# Altium integrated library TI Amplifiers and Linear Operational Amplifier High Speed.IntLib: 1100 symbols (part 21 of 44)
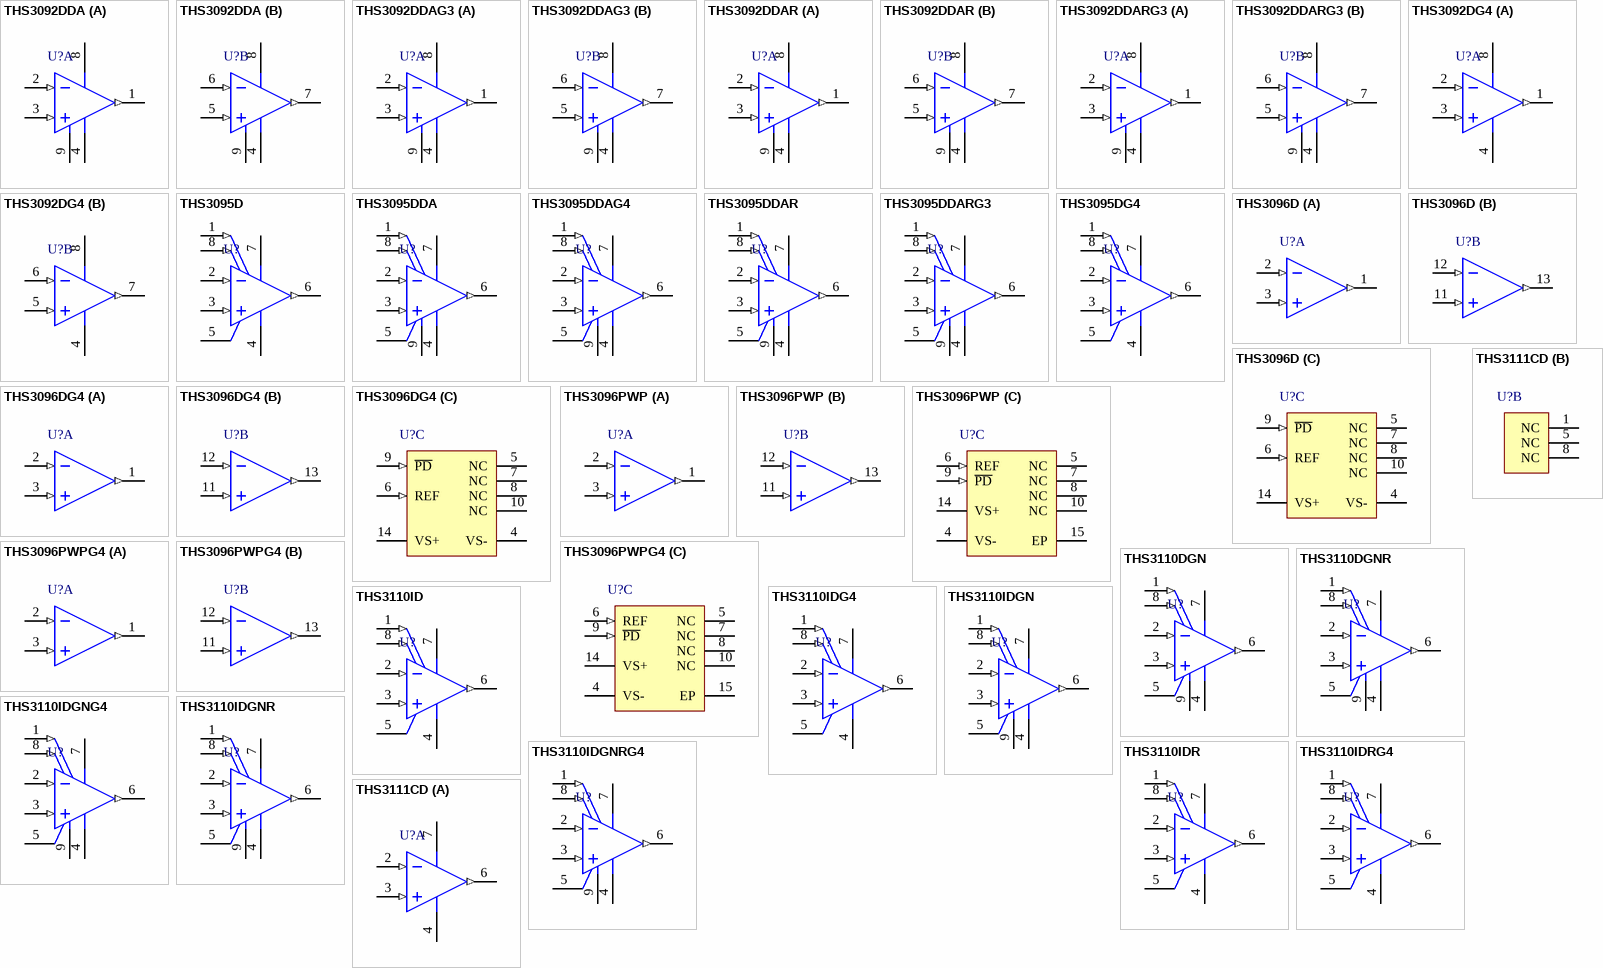
[diagram p71: symbols THS3092DDA to THS3111CD]

## THS3092DDAG3
designator U?
Dual-High-Voltage, Low Distortion, Current-Feedback Operational Amplifier, 10 to 30 V, -40 to 85 degC, 8-pin SOP (DDA8), Green (RoHS & no Sb/Br); Manufacturer: Texas Instruments; PartNumber: THS3092DDAG3; 2nd Harmonic(dBc): 66; 3rd Harmonic(dBc): 76; @ MHz: 10; Acl, min stable gain(V/V): 1; BW @ Acl(MHz): 160; Diff Gain(%): 0.013; Diff Phase(deg): 0.02; Iib(Max)(nA): 20000; Io(Typ)(mA): 250; Iq per channel(Max)(mA): 11; Number of Channels: 2; Settling Time (0.1%)(Typ)(ns): 72; Slew Rate(Typ)(V/us): 5700; Sub Family: High Output Current Amplifier (>=50mA), High Speed Amplifier (>=50MHz), High Supply Voltage Amplifier (>=30V); THD (Fc is 1 MHz)(Typ)(dB): -83; Vio(Max)(mV): 4; Vs(Max)(V): 30; DatasheetVersion: SLOS428B; PackageVersion: 4202561/F, 12/2011; PackageReference: DDA8-1775X1775TP; PackageDescription: 8-Pin PowerPAD(TM) Plastic Small Outline, Body 4.9 x 3.9 mm, Pitch 1.27 mm; Supplier 1: Digi-Key; Supplier Part Number 1: THS3092DDAG3-ND; Supplier 2: Mouser; Supplier Part Number 2: 595-THS3092DDAG3; Eco-Plan: Green (RoHS & no Sb/Br); Vn at Flatband(Typ)(nV/rtHz): 2; Vs(Min)(V): 10; Mounting Technology: Surface Mount; Code_JEDEC: MS-012; ComponentLink1Description: Manufacturer URL; ComponentLink1URL: http://www.ti.com/; ComponentLink2Description: Datasheet; ComponentLink2URL: http://www.ti.com/general/docs/lit/getliterature.tsp?genericPartNumber=THS3092&fileType=pdf; ComponentLink3Description: Package Specification; ComponentLink3URL: http://www.ti.com/litv/pdf/mpds092e
footprint TI-DDA8-1775X1775TP_N (SOP, 8-Leads, Body 4.9x3.9mm, Pitch 1.27mm, Thermal Pad 1.775x1.775mm, IPC Medium Density)
footprint TI-DDA8-1775X1775TP_L (SOP, 8-Leads, Body 4.9x3.9mm, Pitch 1.27mm, Thermal Pad 1.775x1.775mm, IPC High Density)
footprint TI-DDA8-1775X1775TP_M (SOP, 8-Leads, Body 4.9x3.9mm, Pitch 1.27mm, Thermal Pad 1.775x1.775mm, IPC Low Density)
pins on every part: 4 VS- (power), 8 VS+ (power), 9 EP
part A pins: 1 VOUT1 (out), 2 VIN1- (in), 3 VIN1+ (in)
part B pins: 5 VIN2+ (in), 6 VIN2- (in), 7 VOUT2 (out)

## THS3092DDAR
designator U?
Dual-High-Voltage, Low Distortion, Current-Feedback Operational Amplifier, 10 to 30 V, -40 to 85 degC, 8-pin SOP (DDA8), Green (RoHS & no Sb/Br); Manufacturer: Texas Instruments; PartNumber: THS3092DDAR; 2nd Harmonic(dBc): 66; 3rd Harmonic(dBc): 76; @ MHz: 10; Acl, min stable gain(V/V): 1; BW @ Acl(MHz): 160; Diff Gain(%): 0.013; Diff Phase(deg): 0.02; Iib(Max)(nA): 20000; Io(Typ)(mA): 250; Iq per channel(Max)(mA): 11; Number of Channels: 2; Settling Time (0.1%)(Typ)(ns): 72; Slew Rate(Typ)(V/us): 5700; Sub Family: High Output Current Amplifier (>=50mA), High Speed Amplifier (>=50MHz), High Supply Voltage Amplifier (>=30V); THD (Fc is 1 MHz)(Typ)(dB): -83; Vio(Max)(mV): 4; Vs(Max)(V): 30; DatasheetVersion: SLOS428B; PackageVersion: 4202561/F, 12/2011; PackageReference: DDA8-1775X1775TP; PackageDescription: 8-Pin PowerPAD(TM) Plastic Small Outline, Body 4.9 x 3.9 mm, Pitch 1.27 mm; Supplier 1: Digi-Key; Supplier Part Number 1: THS3092DDAR-ND; Supplier 2: Mouser; Supplier Part Number 2: 595-THS3092DDAR; Eco-Plan: Green (RoHS & no Sb/Br); Vn at Flatband(Typ)(nV/rtHz): 2; Vs(Min)(V): 10; Mounting Technology: Surface Mount; Code_JEDEC: MS-012; ComponentLink1Description: Manufacturer URL; ComponentLink1URL: http://www.ti.com/; ComponentLink2Description: Datasheet; ComponentLink2URL: http://www.ti.com/general/docs/lit/getliterature.tsp?genericPartNumber=THS3092&fileType=pdf; ComponentLink3Description: Package Specification; ComponentLink3URL: http://www.ti.com/litv/pdf/mpds092e
footprint TI-DDA8-1775X1775TP_N (SOP, 8-Leads, Body 4.9x3.9mm, Pitch 1.27mm, Thermal Pad 1.775x1.775mm, IPC Medium Density)
footprint TI-DDA8-1775X1775TP_L (SOP, 8-Leads, Body 4.9x3.9mm, Pitch 1.27mm, Thermal Pad 1.775x1.775mm, IPC High Density)
footprint TI-DDA8-1775X1775TP_M (SOP, 8-Leads, Body 4.9x3.9mm, Pitch 1.27mm, Thermal Pad 1.775x1.775mm, IPC Low Density)
pins on every part: 4 VS- (power), 8 VS+ (power), 9 EP
part A pins: 1 VOUT1 (out), 2 VIN1- (in), 3 VIN1+ (in)
part B pins: 5 VIN2+ (in), 6 VIN2- (in), 7 VOUT2 (out)

## THS3092DDARG3
designator U?
Dual-High-Voltage, Low Distortion, Current-Feedback Operational Amplifier, 10 to 30 V, -40 to 85 degC, 8-pin SOP (DDA8), Green (RoHS & no Sb/Br); Manufacturer: Texas Instruments; PartNumber: THS3092DDARG3; 2nd Harmonic(dBc): 66; 3rd Harmonic(dBc): 76; @ MHz: 10; Acl, min stable gain(V/V): 1; BW @ Acl(MHz): 160; Diff Gain(%): 0.013; Diff Phase(deg): 0.02; Iib(Max)(nA): 20000; Io(Typ)(mA): 250; Iq per channel(Max)(mA): 11; Number of Channels: 2; Settling Time (0.1%)(Typ)(ns): 72; Slew Rate(Typ)(V/us): 5700; Sub Family: High Output Current Amplifier (>=50mA), High Speed Amplifier (>=50MHz), High Supply Voltage Amplifier (>=30V); THD (Fc is 1 MHz)(Typ)(dB): -83; Vio(Max)(mV): 4; Vs(Max)(V): 30; DatasheetVersion: SLOS428B; PackageVersion: 4202561/F, 12/2011; PackageReference: DDA8-1775X1775TP; PackageDescription: 8-Pin PowerPAD(TM) Plastic Small Outline, Body 4.9 x 3.9 mm, Pitch 1.27 mm; Supplier 1: Digi-Key; Supplier Part Number 1: THS3092DDARG3-ND; Supplier 2: Mouser; Supplier Part Number 2: 595-THS3092DDARG3; Eco-Plan: Green (RoHS & no Sb/Br); Vn at Flatband(Typ)(nV/rtHz): 2; Vs(Min)(V): 10; Mounting Technology: Surface Mount; Code_JEDEC: MS-012; ComponentLink1Description: Manufacturer URL; ComponentLink1URL: http://www.ti.com/; ComponentLink2Description: Datasheet; ComponentLink2URL: http://www.ti.com/general/docs/lit/getliterature.tsp?genericPartNumber=THS3092&fileType=pdf; ComponentLink3Description: Package Specification; ComponentLink3URL: http://www.ti.com/litv/pdf/mpds092e
footprint TI-DDA8-1775X1775TP_N (SOP, 8-Leads, Body 4.9x3.9mm, Pitch 1.27mm, Thermal Pad 1.775x1.775mm, IPC Medium Density)
footprint TI-DDA8-1775X1775TP_L (SOP, 8-Leads, Body 4.9x3.9mm, Pitch 1.27mm, Thermal Pad 1.775x1.775mm, IPC High Density)
footprint TI-DDA8-1775X1775TP_M (SOP, 8-Leads, Body 4.9x3.9mm, Pitch 1.27mm, Thermal Pad 1.775x1.775mm, IPC Low Density)
pins on every part: 4 VS- (power), 8 VS+ (power), 9 EP
part A pins: 1 VOUT1 (out), 2 VIN1- (in), 3 VIN1+ (in)
part B pins: 5 VIN2+ (in), 6 VIN2- (in), 7 VOUT2 (out)

## THS3092DG4
designator U?
Dual-High-Voltage, Low Distortion, Current-Feedback Operational Amplifier, 10 to 30 V, -40 to 85 degC, 8-pin SOIC (D8), Green (RoHS & no Sb/Br); Manufacturer: Texas Instruments; PartNumber: THS3092DG4; 2nd Harmonic(dBc): 66; 3rd Harmonic(dBc): 76; @ MHz: 10; Acl, min stable gain(V/V): 1; BW @ Acl(MHz): 160; Diff Gain(%): 0.013; Diff Phase(deg): 0.02; Iib(Max)(nA): 20000; Io(Typ)(mA): 250; Iq per channel(Max)(mA): 11; Number of Channels: 2; Settling Time (0.1%)(Typ)(ns): 42; Slew Rate(Typ)(V/us): 5700; Sub Family: High Output Current Amplifier (>=50mA), High Speed Amplifier (>=50MHz), High Supply Voltage Amplifier (>=30V); THD (Fc is 1 MHz)(Typ)(dB): -83; Vio(Max)(mV): 4; Vs(Max)(V): 30; DatasheetVersion: SLOS428B; PackageVersion: 4040047-3/M, 06/2011; PackageReference: D8; PackageDescription: 8-Pin Plastic Small Outline, Body 4.9 x 3.9 mm, Pitch 1.27 mm; Supplier 1: Digi-Key; Supplier Part Number 1: THS3092DG4-ND; Supplier 2: Mouser; Supplier Part Number 2: 595-THS3092DG4; Eco-Plan: Green (RoHS & no Sb/Br); Vn at Flatband(Typ)(nV/rtHz): 2; Vs(Min)(V): 10; Mounting Technology: Surface Mount; Code_JEDEC: MS-012; ComponentLink1Description: Manufacturer URL; ComponentLink1URL: http://www.ti.com/; ComponentLink2Description: Datasheet; ComponentLink2URL: http://www.ti.com/general/docs/lit/getliterature.tsp?genericPartNumber=THS3092&fileType=pdf; ComponentLink3Description: Package Specification; ComponentLink3URL: http://www.ti.com/litv/pdf/msoi002j
footprint TI-D8_N (SOIC, 8-Leads, Body 4.9x3.9mm, Pitch 1.27mm, IPC Medium Density)
footprint TI-D8_L (SOIC, 8-Leads, Body 4.9x3.9mm, Pitch 1.27mm, IPC High Density)
footprint TI-D8_M (SOIC, 8-Leads, Body 4.9x3.9mm, Pitch 1.27mm, IPC Low Density)
pins on every part: 4 VS- (power), 8 VS+ (power)
part A pins: 1 VOUT1 (out), 2 VIN1- (in), 3 VIN1+ (in)
part B pins: 5 VIN2+ (in), 6 VIN2- (in), 7 VOUT2 (out)

## THS3095D
designator U?
Single-High-Voltage, Low Distortion, Current-Feedback Operational Amplifier with Power-Down, 10 to 30 V, -40 to 85 degC, 8-pin SOIC (D8), Green (RoHS & no Sb/Br); Manufacturer: Texas Instruments; PartNumber: THS3095D; 2nd Harmonic(dBc): 66; 3rd Harmonic(dBc): 74; @ MHz: 10; Acl, min stable gain(V/V): 1; BW @ Acl(MHz): 210; Diff Gain(%): 0.013; Diff Phase(deg): 0.02; Iib(Max)(nA): 20000; Io(Typ)(mA): 250; Iq per channel(Max)(mA): 11; Settling Time (0.1%)(Typ)(ns): 42; Slew Rate(Typ)(V/us): 7300; Sub Family: High Output Current Amplifier (>=50mA), High Speed Amplifier (>=50MHz), High Supply Voltage Amplifier (>=30V); THD (Fc is 1 MHz)(Typ)(dB): -75; Vio(Max)(mV): 4; Vn at Flatband(Typ)(nV/rtHz): 2; Vs(Max)(V): 30; DatasheetVersion: SLOS423G; PackageVersion: 4040047-3/M, 06/2011; PackageReference: D8; PackageDescription: 8-Pin Plastic Small Outline, Body 4.9 x 3.9 mm, Pitch 1.27 mm; Supplier 1: Digi-Key; Supplier Part Number 1: 296-16672-5-ND; Supplier 2: Newark; Supplier Part Number 2: 90H4521; Supplier 3: Mouser; Supplier Part Number 3: 595-THS3095D; Eco-Plan: Green (RoHS & no Sb/Br); Number of Channels: 1; Vs(Min)(V): 10; Mounting Technology: Surface Mount; Code_JEDEC: MS-012; ComponentLink1Description: Manufacturer URL; ComponentLink1URL: http://www.ti.com/; ComponentLink2Description: Datasheet; ComponentLink2URL: http://www.ti.com/general/docs/lit/getliterature.tsp?genericPartNumber=THS3095&fileType=pdf; ComponentLink3Description: Package Specification; ComponentLink3URL: http://www.ti.com/litv/pdf/msoi002j
footprint TI-D8_N (SOIC, 8-Leads, Body 4.9x3.9mm, Pitch 1.27mm, IPC Medium Density)
footprint TI-D8_L (SOIC, 8-Leads, Body 4.9x3.9mm, Pitch 1.27mm, IPC High Density)
footprint TI-D8_M (SOIC, 8-Leads, Body 4.9x3.9mm, Pitch 1.27mm, IPC Low Density)
pins: 1 REF (in), 2 VIN- (in), 3 VIN+ (in), 4 VS- (power), 5 NC, 6 VOUT (out), 7 VS+ (power), 8 ~{PD} (in)

## THS3095DDA
designator U?
Single-High-Voltage, Low Distortion, Current-Feedback Operational Amplifier with Power-Down, 10 to 30 V, -40 to 85 degC, 8-pin SOP (DDA8), Green (RoHS & no Sb/Br); Manufacturer: Texas Instruments; PartNumber: THS3095DDA; 2nd Harmonic(dBc): 66; 3rd Harmonic(dBc): 74; @ MHz: 10; Acl, min stable gain(V/V): 1; BW @ Acl(MHz): 210; Diff Gain(%): 0.013; Diff Phase(deg): 0.02; Iib(Max)(nA): 20000; Io(Typ)(mA): 250; Iq per channel(Max)(mA): 11; Settling Time (0.1%)(Typ)(ns): 42; Slew Rate(Typ)(V/us): 7300; Sub Family: High Output Current Amplifier (>=50mA), High Speed Amplifier (>=50MHz), High Supply Voltage Amplifier (>=30V); THD (Fc is 1 MHz)(Typ)(dB): -75; Vio(Max)(mV): 4; Vn at Flatband(Typ)(nV/rtHz): 2; Vs(Max)(V): 30; DatasheetVersion: SLOS423G; PackageVersion: 4202561/F, 12/2011; PackageReference: DDA8-1775X1775TP; PackageDescription: 8-Pin PowerPAD(TM) Plastic Small Outline, Body 4.9 x 3.9 mm, Pitch 1.27 mm; Supplier 1: Digi-Key; Supplier Part Number 1: 296-15790-5-ND; Supplier 2: Newark; Supplier Part Number 2: 87H2764; Supplier 3: Mouser; Supplier Part Number 3: 595-THS3095DDA; Eco-Plan: Green (RoHS & no Sb/Br); Number of Channels: 1; Vs(Min)(V): 10; Mounting Technology: Surface Mount; Code_JEDEC: MS-012; ComponentLink1Description: Manufacturer URL; ComponentLink1URL: http://www.ti.com/; ComponentLink2Description: Datasheet; ComponentLink2URL: http://www.ti.com/general/docs/lit/getliterature.tsp?genericPartNumber=THS3095&fileType=pdf; ComponentLink3Description: Package Specification; ComponentLink3URL: http://www.ti.com/litv/pdf/mpds092e
footprint TI-DDA8-1775X1775TP_N (SOP, 8-Leads, Body 4.9x3.9mm, Pitch 1.27mm, Thermal Pad 1.775x1.775mm, IPC Medium Density)
footprint TI-DDA8-1775X1775TP_L (SOP, 8-Leads, Body 4.9x3.9mm, Pitch 1.27mm, Thermal Pad 1.775x1.775mm, IPC High Density)
footprint TI-DDA8-1775X1775TP_M (SOP, 8-Leads, Body 4.9x3.9mm, Pitch 1.27mm, Thermal Pad 1.775x1.775mm, IPC Low Density)
pins: 1 REF (in), 2 VIN- (in), 3 VIN+ (in), 4 VS- (power), 5 NC, 6 VOUT (out), 7 VS+ (power), 8 ~{PD} (in), 9 EP (power)

## THS3095DDAG4
designator U?
Single-High-Voltage, Low Distortion, Current-Feedback Operational Amplifier with Power-Down, 10 to 30 V, -40 to 85 degC, 8-pin SOP (DDA8), Green (RoHS & no Sb/Br); Manufacturer: Texas Instruments; PartNumber: THS3095DDAG4; 2nd Harmonic(dBc): 66; 3rd Harmonic(dBc): 74; @ MHz: 10; Acl, min stable gain(V/V): 1; BW @ Acl(MHz): 210; Diff Gain(%): 0.013; Diff Phase(deg): 0.02; Iib(Max)(nA): 20000; Io(Typ)(mA): 250; Iq per channel(Max)(mA): 11; Settling Time (0.1%)(Typ)(ns): 42; Slew Rate(Typ)(V/us): 7300; Sub Family: High Output Current Amplifier (>=50mA), High Speed Amplifier (>=50MHz), High Supply Voltage Amplifier (>=30V); THD (Fc is 1 MHz)(Typ)(dB): -75; Vio(Max)(mV): 4; Vn at Flatband(Typ)(nV/rtHz): 2; Vs(Max)(V): 30; DatasheetVersion: SLOS423G; PackageVersion: 4202561/F, 12/2011; PackageReference: DDA8-1775X1775TP; PackageDescription: 8-Pin PowerPAD(TM) Plastic Small Outline, Body 4.9 x 3.9 mm, Pitch 1.27 mm; Supplier 1: Digi-Key; Supplier Part Number 1: THS3095DDAG4-ND; Supplier 2: Newark; Supplier Part Number 2: 73K9520; Supplier 3: Mouser; Supplier Part Number 3: 595-THS3095DDAG4; Eco-Plan: Green (RoHS & no Sb/Br); Number of Channels: 1; Vs(Min)(V): 10; Mounting Technology: Surface Mount; Code_JEDEC: MS-012; ComponentLink1Description: Manufacturer URL; ComponentLink1URL: http://www.ti.com/; ComponentLink2Description: Datasheet; ComponentLink2URL: http://www.ti.com/general/docs/lit/getliterature.tsp?genericPartNumber=THS3095&fileType=pdf; ComponentLink3Description: Package Specification; ComponentLink3URL: http://www.ti.com/litv/pdf/mpds092e
footprint TI-DDA8-1775X1775TP_N (SOP, 8-Leads, Body 4.9x3.9mm, Pitch 1.27mm, Thermal Pad 1.775x1.775mm, IPC Medium Density)
footprint TI-DDA8-1775X1775TP_L (SOP, 8-Leads, Body 4.9x3.9mm, Pitch 1.27mm, Thermal Pad 1.775x1.775mm, IPC High Density)
footprint TI-DDA8-1775X1775TP_M (SOP, 8-Leads, Body 4.9x3.9mm, Pitch 1.27mm, Thermal Pad 1.775x1.775mm, IPC Low Density)
pins: 1 REF (in), 2 VIN- (in), 3 VIN+ (in), 4 VS- (power), 5 NC, 6 VOUT (out), 7 VS+ (power), 8 ~{PD} (in), 9 EP (power)

## THS3095DDAR
designator U?
Single-High-Voltage, Low Distortion, Current-Feedback Operational Amplifier with Power-Down, 10 to 30 V, -40 to 85 degC, 8-pin SOP (DDA8), Green (RoHS & no Sb/Br); Manufacturer: Texas Instruments; PartNumber: THS3095DDAR; 2nd Harmonic(dBc): 66; 3rd Harmonic(dBc): 74; @ MHz: 10; Acl, min stable gain(V/V): 1; BW @ Acl(MHz): 210; Diff Gain(%): 0.013; Diff Phase(deg): 0.02; Iib(Max)(nA): 20000; Io(Typ)(mA): 250; Iq per channel(Max)(mA): 11; Settling Time (0.1%)(Typ)(ns): 42; Slew Rate(Typ)(V/us): 7300; Sub Family: High Output Current Amplifier (>=50mA), High Speed Amplifier (>=50MHz), High Supply Voltage Amplifier (>=30V); THD (Fc is 1 MHz)(Typ)(dB): -75; Vio(Max)(mV): 4; Vn at Flatband(Typ)(nV/rtHz): 2; Vs(Max)(V): 30; DatasheetVersion: SLOS423G; PackageVersion: 4202561/F, 12/2011; PackageReference: DDA8-1775X1775TP; PackageDescription: 8-Pin PowerPAD(TM) Plastic Small Outline, Body 4.9 x 3.9 mm, Pitch 1.27 mm; Supplier 1: Digi-Key; Supplier Part Number 1: THS3095DDAR-ND; Supplier 2: Newark; Supplier Part Number 2: 87H2765; Supplier 3: Mouser; Supplier Part Number 3: 595-THS3095DDAR; Eco-Plan: Green (RoHS & no Sb/Br); Number of Channels: 1; Vs(Min)(V): 10; Mounting Technology: Surface Mount; Code_JEDEC: MS-012; ComponentLink1Description: Manufacturer URL; ComponentLink1URL: http://www.ti.com/; ComponentLink2Description: Datasheet; ComponentLink2URL: http://www.ti.com/general/docs/lit/getliterature.tsp?genericPartNumber=THS3095&fileType=pdf; ComponentLink3Description: Package Specification; ComponentLink3URL: http://www.ti.com/litv/pdf/mpds092e
footprint TI-DDA8-1775X1775TP_N (SOP, 8-Leads, Body 4.9x3.9mm, Pitch 1.27mm, Thermal Pad 1.775x1.775mm, IPC Medium Density)
footprint TI-DDA8-1775X1775TP_L (SOP, 8-Leads, Body 4.9x3.9mm, Pitch 1.27mm, Thermal Pad 1.775x1.775mm, IPC High Density)
footprint TI-DDA8-1775X1775TP_M (SOP, 8-Leads, Body 4.9x3.9mm, Pitch 1.27mm, Thermal Pad 1.775x1.775mm, IPC Low Density)
pins: 1 REF (in), 2 VIN- (in), 3 VIN+ (in), 4 VS- (power), 5 NC, 6 VOUT (out), 7 VS+ (power), 8 ~{PD} (in), 9 EP (power)

## THS3095DDARG3
designator U?
Single-High-Voltage, Low Distortion, Current-Feedback Operational Amplifier with Power-Down, 10 to 30 V, -40 to 85 degC, 8-pin SOP (DDA8), Green (RoHS & no Sb/Br); Manufacturer: Texas Instruments; PartNumber: THS3095DDARG3; 2nd Harmonic(dBc): 66; 3rd Harmonic(dBc): 74; @ MHz: 10; Acl, min stable gain(V/V): 1; BW @ Acl(MHz): 210; Diff Gain(%): 0.013; Diff Phase(deg): 0.02; Iib(Max)(nA): 20000; Io(Typ)(mA): 250; Iq per channel(Max)(mA): 11; Settling Time (0.1%)(Typ)(ns): 42; Slew Rate(Typ)(V/us): 7300; Sub Family: High Output Current Amplifier (>=50mA), High Speed Amplifier (>=50MHz), High Supply Voltage Amplifier (>=30V); THD (Fc is 1 MHz)(Typ)(dB): -75; Vio(Max)(mV): 4; Vn at Flatband(Typ)(nV/rtHz): 2; Vs(Max)(V): 30; DatasheetVersion: SLOS423G; PackageVersion: 4202561/F, 12/2011; PackageReference: DDA8-1775X1775TP; PackageDescription: 8-Pin PowerPAD(TM) Plastic Small Outline, Body 4.9 x 3.9 mm, Pitch 1.27 mm; Supplier 1: Digi-Key; Supplier Part Number 1: THS3095DDARG3-ND; Supplier 2: Mouser; Supplier Part Number 2: 595-THS3095DDARG3; Eco-Plan: Green (RoHS & no Sb/Br); Number of Channels: 1; Vs(Min)(V): 10; Mounting Technology: Surface Mount; Code_JEDEC: MS-012; ComponentLink1Description: Manufacturer URL; ComponentLink1URL: http://www.ti.com/; ComponentLink2Description: Datasheet; ComponentLink2URL: http://www.ti.com/general/docs/lit/getliterature.tsp?genericPartNumber=THS3095&fileType=pdf; ComponentLink3Description: Package Specification; ComponentLink3URL: http://www.ti.com/litv/pdf/mpds092e
footprint TI-DDA8-1775X1775TP_N (SOP, 8-Leads, Body 4.9x3.9mm, Pitch 1.27mm, Thermal Pad 1.775x1.775mm, IPC Medium Density)
footprint TI-DDA8-1775X1775TP_L (SOP, 8-Leads, Body 4.9x3.9mm, Pitch 1.27mm, Thermal Pad 1.775x1.775mm, IPC High Density)
footprint TI-DDA8-1775X1775TP_M (SOP, 8-Leads, Body 4.9x3.9mm, Pitch 1.27mm, Thermal Pad 1.775x1.775mm, IPC Low Density)
pins: 1 REF (in), 2 VIN- (in), 3 VIN+ (in), 4 VS- (power), 5 NC, 6 VOUT (out), 7 VS+ (power), 8 ~{PD} (in), 9 EP (power)

## THS3095DG4
designator U?
Single-High-Voltage, Low Distortion, Current-Feedback Operational Amplifier with Power-Down, 10 to 30 V, -40 to 85 degC, 8-pin SOIC (D8), Green (RoHS & no Sb/Br); Manufacturer: Texas Instruments; PartNumber: THS3095DG4; 2nd Harmonic(dBc): 66; 3rd Harmonic(dBc): 74; @ MHz: 10; Acl, min stable gain(V/V): 1; BW @ Acl(MHz): 210; Diff Gain(%): 0.013; Diff Phase(deg): 0.02; Iib(Max)(nA): 20000; Io(Typ)(mA): 250; Iq per channel(Max)(mA): 11; Settling Time (0.1%)(Typ)(ns): 42; Slew Rate(Typ)(V/us): 7300; Sub Family: High Output Current Amplifier (>=50mA), High Speed Amplifier (>=50MHz), High Supply Voltage Amplifier (>=30V); THD (Fc is 1 MHz)(Typ)(dB): -75; Vio(Max)(mV): 4; Vn at Flatband(Typ)(nV/rtHz): 2; Vs(Max)(V): 30; DatasheetVersion: SLOS423G; PackageVersion: 4040047-3/M, 06/2011; PackageReference: D8; PackageDescription: 8-Pin Plastic Small Outline, Body 4.9 x 3.9 mm, Pitch 1.27 mm; Supplier 1: Digi-Key; Supplier Part Number 1: THS3095DG4-ND; Supplier 2: Mouser; Supplier Part Number 2: 595-THS3095DG4; Eco-Plan: Green (RoHS & no Sb/Br); Number of Channels: 1; Vs(Min)(V): 10; Mounting Technology: Surface Mount; Code_JEDEC: MS-012; ComponentLink1Description: Manufacturer URL; ComponentLink1URL: http://www.ti.com/; ComponentLink2Description: Datasheet; ComponentLink2URL: http://www.ti.com/general/docs/lit/getliterature.tsp?genericPartNumber=THS3095&fileType=pdf; ComponentLink3Description: Package Specification; ComponentLink3URL: http://www.ti.com/litv/pdf/msoi002j
footprint TI-D8_N (SOIC, 8-Leads, Body 4.9x3.9mm, Pitch 1.27mm, IPC Medium Density)
footprint TI-D8_L (SOIC, 8-Leads, Body 4.9x3.9mm, Pitch 1.27mm, IPC High Density)
footprint TI-D8_M (SOIC, 8-Leads, Body 4.9x3.9mm, Pitch 1.27mm, IPC Low Density)
pins: 1 REF (in), 2 VIN- (in), 3 VIN+ (in), 4 VS- (power), 5 NC, 6 VOUT (out), 7 VS+ (power), 8 ~{PD} (in)

## THS3096D
designator U?
Dual-High-Voltage, Low Distortion, Current-Feedback Operational Amplifier with Power-down, 10 to 30 V, -40 to 85 degC, 14-pin SOIC (D14), Green (RoHS & no Sb/Br); Manufacturer: Texas Instruments; PartNumber: THS3096D; 2nd Harmonic(dBc): 66; 3rd Harmonic(dBc): 76; @ MHz: 10; Acl, min stable gain(V/V): 1; BW @ Acl(MHz): 160; Diff Gain(%): 0.013; Diff Phase(deg): 0.02; Iib(Max)(nA): 20000; Io(Typ)(mA): 250; Iq per channel(Max)(mA): 7.5; Number of Channels: 2; Settling Time (0.1%)(Typ)(ns): 42; Slew Rate(Typ)(V/us): 5700; Sub Family: High Output Current Amplifier (>=50mA), High Speed Amplifier (>=50MHz), High Supply Voltage Amplifier (>=30V); THD (Fc is 1 MHz)(Typ)(dB): -83; Vio(Max)(mV): 4; Vs(Max)(V): 30; DatasheetVersion: SLOS428B; PackageVersion: 4040047-5/M, 06/2011; PackageReference: D14; PackageDescription: 14-Pin Plastic Small Outline, Body 8.65 x 3.9 mm, Pitch 1.27 mm; Supplier 1: Digi-Key; Supplier Part Number 1: 296-18838-5-ND; Supplier 2: Newark; Supplier Part Number 2: 01J0824; Supplier 3: Mouser; Supplier Part Number 3: 595-THS3096D; Eco-Plan: Green (RoHS & no Sb/Br); Vn at Flatband(Typ)(nV/rtHz): 2; Vs(Min)(V): 10; Mounting Technology: Surface Mount; Code_JEDEC: MS-012; ComponentLink1Description: Manufacturer URL; ComponentLink1URL: http://www.ti.com/; ComponentLink2Description: Datasheet; ComponentLink2URL: http://www.ti.com/general/docs/lit/getliterature.tsp?genericPartNumber=THS3096&fileType=pdf; ComponentLink3Description: Package Specification; ComponentLink3URL: http://www.ti.com/lit/ml/mpds177g/mpds177g.pdf
footprint TI-D14_N (SOIC, 14-Leads, Body 8.65x3.9mm, Pitch 1.27mm, IPC Medium Density)
footprint TI-D14_L (SOIC, 14-Leads, Body 8.65x3.9mm, Pitch 1.27mm, IPC High Density)
footprint TI-D14_M (SOIC, 14-Leads, Body 8.65x3.9mm, Pitch 1.27mm, IPC Low Density)
part A pins: 1 VOUT1 (out), 2 VIN1- (in), 3 VIN1+ (in)
part B pins: 11 VIN2+ (in), 12 VIN2- (in), 13 VOUT2 (out)
part C pins: 4 VS- (power), 5 NC, 6 REF (in), 7 NC, 8 NC, 9 ~{PD} (in), 10 NC, 14 VS+ (power)

## THS3096DG4
designator U?
Dual-High-Voltage, Low Distortion, Current-Feedback Operational Amplifier with Power-down, 10 to 30 V, -40 to 85 degC, 14-pin SOIC (D14), Green (RoHS & no Sb/Br); Manufacturer: Texas Instruments; PartNumber: THS3096DG4; 2nd Harmonic(dBc): 66; 3rd Harmonic(dBc): 76; @ MHz: 10; Acl, min stable gain(V/V): 1; BW @ Acl(MHz): 160; Diff Gain(%): 0.013; Diff Phase(deg): 0.02; Iib(Max)(nA): 20000; Io(Typ)(mA): 250; Iq per channel(Max)(mA): 7.5; Number of Channels: 2; Settling Time (0.1%)(Typ)(ns): 42; Slew Rate(Typ)(V/us): 5700; Sub Family: High Output Current Amplifier (>=50mA), High Speed Amplifier (>=50MHz), High Supply Voltage Amplifier (>=30V); THD (Fc is 1 MHz)(Typ)(dB): -83; Vio(Max)(mV): 4; Vs(Max)(V): 30; DatasheetVersion: SLOS428B; PackageVersion: 4040047-5/M, 06/2011; PackageReference: D14; PackageDescription: 14-Pin Plastic Small Outline, Body 8.65 x 3.9 mm, Pitch 1.27 mm; Supplier 1: Digi-Key; Supplier Part Number 1: THS3096DG4-ND; Supplier 2: Mouser; Supplier Part Number 2: 595-THS3096DG4; Eco-Plan: Green (RoHS & no Sb/Br); Vn at Flatband(Typ)(nV/rtHz): 2; Vs(Min)(V): 10; Mounting Technology: Surface Mount; Code_JEDEC: MS-012; ComponentLink1Description: Manufacturer URL; ComponentLink1URL: http://www.ti.com/; ComponentLink2Description: Datasheet; ComponentLink2URL: http://www.ti.com/general/docs/lit/getliterature.tsp?genericPartNumber=THS3096&fileType=pdf; ComponentLink3Description: Package Specification; ComponentLink3URL: http://www.ti.com/lit/ml/mpds177g/mpds177g.pdf
footprint TI-D14_N (SOIC, 14-Leads, Body 8.65x3.9mm, Pitch 1.27mm, IPC Medium Density)
footprint TI-D14_L (SOIC, 14-Leads, Body 8.65x3.9mm, Pitch 1.27mm, IPC High Density)
footprint TI-D14_M (SOIC, 14-Leads, Body 8.65x3.9mm, Pitch 1.27mm, IPC Low Density)
part A pins: 1 VOUT1 (out), 2 VIN1- (in), 3 VIN1+ (in)
part B pins: 11 VIN2+ (in), 12 VIN2- (in), 13 VOUT2 (out)
part C pins: 4 VS- (power), 5 NC, 6 REF (in), 7 NC, 8 NC, 9 ~{PD} (in), 10 NC, 14 VS+ (power)

## THS3096PWP
designator U?
Dual-High-Voltage, Low Distortion, Current-Feedback Operational Amplifier with Power-down, 10 to 30 V, -40 to 85 degC, 14-pin SOP (PWP14), Green (RoHS & no Sb/Br); Manufacturer: Texas Instruments; PartNumber: THS3096PWP; 2nd Harmonic(dBc): 66; 3rd Harmonic(dBc): 76; @ MHz: 10; Acl, min stable gain(V/V): 1; BW @ Acl(MHz): 160; Diff Gain(%): 0.013; Diff Phase(deg): 0.02; Iib(Max)(nA): 20000; Io(Typ)(mA): 250; Iq per channel(Max)(mA): 7.5; Number of Channels: 2; Settling Time (0.1%)(Typ)(ns): 42; Slew Rate(Typ)(V/us): 5700; Sub Family: High Output Current Amplifier (>=50mA), High Speed Amplifier (>=50MHz), High Supply Voltage Amplifier (>=30V); THD (Fc is 1 MHz)(Typ)(dB): -83; Vio(Max)(mV): 4; Vs(Max)(V): 30; DatasheetVersion: SLOS428B; PackageVersion: 4073225-2/I, 05/2011; PackageReference: PWP14-1830X2055TP; PackageDescription: 14-Pin Plastic Small Outline, Body 4.4 x 5 mm, Pitch 0.65 mm; Supplier 1: Digi-Key; Supplier Part Number 1: 296-18840-5-ND; Supplier 2: Mouser; Supplier Part Number 2: 595-THS3096PWP; Eco-Plan: Green (RoHS & no Sb/Br); Vn at Flatband(Typ)(nV/rtHz): 2; Vs(Min)(V): 10; Mounting Technology: Surface Mount; Code_JEDEC: MO-153; ComponentLink1Description: Manufacturer URL; ComponentLink1URL: http://www.ti.com/; ComponentLink2Description: Datasheet; ComponentLink2URL: http://www.ti.com/general/docs/lit/getliterature.tsp?genericPartNumber=THS3096&fileType=pdf; ComponentLink3Description: Package Specification; ComponentLink3URL: http://www.ti.com/litv/pdf/mpds373
footprint TI-PWP14-1830X2055TP_N (SOP, 14-Leads, Body 5x4.4mm, Pitch 0.65mm, Thermal Pad 1.830x2.055mm, IPC Medium Density)
footprint TI-PWP14-1830X2055TP_L (SOP, 14-Leads, Body 5x4.4mm, Pitch 0.65mm, Thermal Pad 1.830x2.055mm, IPC High Density)
footprint TI-PWP14-1830X2055TP_M (SOP, 14-Leads, Body 5x4.4mm, Pitch 0.65mm, Thermal Pad 1.830x2.055mm, IPC Low Density)
part A pins: 1 VOUT1 (out), 2 VIN1- (in), 3 VIN1+ (in)
part B pins: 11 VIN2+ (in), 12 VIN2- (in), 13 VOUT2 (out)
part C pins: 4 VS- (power), 5 NC, 6 REF (in), 7 NC, 8 NC, 9 ~{PD} (in), 10 NC, 14 VS+ (power), 15 EP

## THS3096PWPG4
designator U?
Dual-High-Voltage, Low Distortion, Current-Feedback Operational Amplifier with Power-down, 10 to 30 V, -40 to 85 degC, 14-pin SOP (PWP14), Green (RoHS & no Sb/Br); Manufacturer: Texas Instruments; PartNumber: THS3096PWPG4; 2nd Harmonic(dBc): 66; 3rd Harmonic(dBc): 76; @ MHz: 10; Acl, min stable gain(V/V): 1; BW @ Acl(MHz): 160; Diff Gain(%): 0.013; Diff Phase(deg): 0.02; Iib(Max)(nA): 20000; Io(Typ)(mA): 250; Iq per channel(Max)(mA): 7.5; Number of Channels: 2; Settling Time (0.1%)(Typ)(ns): 42; Slew Rate(Typ)(V/us): 5700; Sub Family: High Output Current Amplifier (>=50mA), High Speed Amplifier (>=50MHz), High Supply Voltage Amplifier (>=30V); THD (Fc is 1 MHz)(Typ)(dB): -83; Vio(Max)(mV): 4; Vs(Max)(V): 30; DatasheetVersion: SLOS428B; PackageVersion: 4073225-2/I, 05/2011; PackageReference: PWP14-1830X2055TP; PackageDescription: 14-Pin Plastic Small Outline, Body 4.4 x 5 mm, Pitch 0.65 mm; Supplier 1: Digi-Key; Supplier Part Number 1: THS3096PWPG4-ND; Supplier 2: Mouser; Supplier Part Number 2: 595-THS3096PWPG4; Eco-Plan: Green (RoHS & no Sb/Br); Vn at Flatband(Typ)(nV/rtHz): 2; Vs(Min)(V): 10; Mounting Technology: Surface Mount; Code_JEDEC: MO-153; ComponentLink1Description: Manufacturer URL; ComponentLink1URL: http://www.ti.com/; ComponentLink2Description: Datasheet; ComponentLink2URL: http://www.ti.com/general/docs/lit/getliterature.tsp?genericPartNumber=THS3096&fileType=pdf; ComponentLink3Description: Package Specification; ComponentLink3URL: http://www.ti.com/litv/pdf/mpds373
footprint TI-PWP14-1830X2055TP_N (SOP, 14-Leads, Body 5x4.4mm, Pitch 0.65mm, Thermal Pad 1.830x2.055mm, IPC Medium Density)
footprint TI-PWP14-1830X2055TP_L (SOP, 14-Leads, Body 5x4.4mm, Pitch 0.65mm, Thermal Pad 1.830x2.055mm, IPC High Density)
footprint TI-PWP14-1830X2055TP_M (SOP, 14-Leads, Body 5x4.4mm, Pitch 0.65mm, Thermal Pad 1.830x2.055mm, IPC Low Density)
part A pins: 1 VOUT1 (out), 2 VIN1- (in), 3 VIN1+ (in)
part B pins: 11 VIN2+ (in), 12 VIN2- (in), 13 VOUT2 (out)
part C pins: 4 VS- (power), 5 NC, 6 REF (in), 7 NC, 8 NC, 9 ~{PD} (in), 10 NC, 14 VS+ (power), 15 EP

## THS3110DGN
designator U?
Single, Low Noise, High Voltage Current-Feedback Amplifier with Power-Down, 10 to 30 V, -40 to 85 degC, 8-pin SOP (DGN8); Manufacturer: Texas Instruments; PartNumber: THS3110DGN; 2nd Harmonic(dBc): 52; 3rd Harmonic(dBc): 48; @ MHz: 10; Acl, min stable gain(V/V): 1; BW @ Acl(MHz): 100; Diff Gain(%): 0.011; Diff Phase(deg): 0.029; Iib(Max)(nA): 6000; Io(Typ)(mA): 260; Iq per channel(Max)(mA): 7.5; Settling Time (0.1%)(Typ)(ns): 250; Slew Rate(Typ)(V/us): 1300; Sub Family: High Output Current Amplifier (>=50mA), High Speed Amplifier (>=50MHz), High Supply Voltage Amplifier (>=30V); THD (Fc is 1 MHz)(Typ)(dB): -78; Vio(Max)(mV): 8; Vn at Flatband(Typ)(nV/rtHz): 3; Vs(Max)(V): 30; DatasheetVersion: SLOS422E; PackageVersion: 4073271/F, 05/2011; PackageReference: DGN8-1760X1425TP; PackageDescription: 8-pin Plastic Small Outline, Body 3 x 3 mm, Pitch 0.65 mm; Supplier 1: Mouser; Supplier Part Number 1: N/A; Number of Channels: 1; Vs(Min)(V): 10; Mounting Technology: Surface Mount; Code_JEDEC: MO-187; ComponentLink1Description: Manufacturer URL; ComponentLink1URL: http://www.ti.com/; ComponentLink2Description: Datasheet; ComponentLink2URL: http://www.ti.com/general/docs/lit/getliterature.tsp?genericPartNumber=THS3110&fileType=pdf; ComponentLink3Description: Package Specification; ComponentLink3URL: http://www.ti.com/litv/pdf/mpds046e
footprint TI-DGN8-1760X1425TP_N (SOP, 8-Leads, Body 3x3mm, Pitch 0.65mm, Thermal Pad 1.76x1.425mm, IPC Medium Density)
footprint TI-DGN8-1760X1425TP_L (SOP, 8-Leads, Body 3x3mm, Pitch 0.65mm, Thermal Pad 1.76x1.425mm, IPC High Density)
footprint TI-DGN8-1760X1425TP_M (SOP, 8-Leads, Body 3x3mm, Pitch 0.65mm, Thermal Pad 1.76 x 1.425 mm, IPC Low Density)
pins: 1 REF (in), 2 VIN- (in), 3 VIN+ (in), 4 VS- (power), 5 NC, 6 VOUT (out), 7 VS+ (power), 8 PD (in), 9 EP

## THS3110DGNR
designator U?
Single, Low Noise, High Voltage Current-Feedback Amplifier with Power-Down, 10 to 30 V, -40 to 85 degC, 8-pin SOP (DGN8); Manufacturer: Texas Instruments; PartNumber: THS3110DGNR; 2nd Harmonic(dBc): 52; 3rd Harmonic(dBc): 48; @ MHz: 10; Acl, min stable gain(V/V): 1; BW @ Acl(MHz): 100; Diff Gain(%): 0.011; Diff Phase(deg): 0.029; Iib(Max)(nA): 6000; Io(Typ)(mA): 260; Iq per channel(Max)(mA): 7.5; Settling Time (0.1%)(Typ)(ns): 250; Slew Rate(Typ)(V/us): 1300; Sub Family: High Output Current Amplifier (>=50mA), High Speed Amplifier (>=50MHz), High Supply Voltage Amplifier (>=30V); THD (Fc is 1 MHz)(Typ)(dB): -78; Vio(Max)(mV): 8; Vn at Flatband(Typ)(nV/rtHz): 3; Vs(Max)(V): 30; DatasheetVersion: SLOS422E; PackageVersion: 4073271/F, 05/2011; PackageReference: DGN8-1760X1425TP; PackageDescription: 8-pin Plastic Small Outline, Body 3 x 3 mm, Pitch 0.65 mm; Supplier 1: Mouser; Supplier Part Number 1: N/A; Number of Channels: 1; Vs(Min)(V): 10; Mounting Technology: Surface Mount; Code_JEDEC: MO-187; ComponentLink1Description: Manufacturer URL; ComponentLink1URL: http://www.ti.com/; ComponentLink2Description: Datasheet; ComponentLink2URL: http://www.ti.com/general/docs/lit/getliterature.tsp?genericPartNumber=THS3110&fileType=pdf; ComponentLink3Description: Package Specification; ComponentLink3URL: http://www.ti.com/litv/pdf/mpds046e
footprint TI-DGN8-1760X1425TP_N (SOP, 8-Leads, Body 3x3mm, Pitch 0.65mm, Thermal Pad 1.76x1.425mm, IPC Medium Density)
footprint TI-DGN8-1760X1425TP_L (SOP, 8-Leads, Body 3x3mm, Pitch 0.65mm, Thermal Pad 1.76x1.425mm, IPC High Density)
footprint TI-DGN8-1760X1425TP_M (SOP, 8-Leads, Body 3x3mm, Pitch 0.65mm, Thermal Pad 1.76 x 1.425 mm, IPC Low Density)
pins: 1 REF (in), 2 VIN- (in), 3 VIN+ (in), 4 VS- (power), 5 NC, 6 VOUT (out), 7 VS+ (power), 8 PD (in), 9 EP

## THS3110ID
designator U?
Single, Low Noise, High Voltage Current-Feedback Amplifier with Power-Down, 10 to 30 V, -40 to 85 degC, 8-pin SOIC (D8), Green (RoHS & no Sb/Br); Manufacturer: Texas Instruments; PartNumber: THS3110ID; 2nd Harmonic(dBc): 52; 3rd Harmonic(dBc): 48; @ MHz: 10; Acl, min stable gain(V/V): 1; BW @ Acl(MHz): 100; Diff Gain(%): 0.011; Diff Phase(deg): 0.029; Iib(Max)(nA): 6000; Io(Typ)(mA): 260; Iq per channel(Max)(mA): 7.5; Settling Time (0.1%)(Typ)(ns): 250; Slew Rate(Typ)(V/us): 1300; Sub Family: High Output Current Amplifier (>=50mA), High Speed Amplifier (>=50MHz), High Supply Voltage Amplifier (>=30V); THD (Fc is 1 MHz)(Typ)(dB): -78; Vio(Max)(mV): 8; Vn at Flatband(Typ)(nV/rtHz): 3; Vs(Max)(V): 30; DatasheetVersion: SLOS422E; PackageVersion: 4040047-3/M, 06/2011; PackageReference: D8; PackageDescription: 8-Pin Plastic Small Outline, Body 4.9 x 3.9 mm, Pitch 1.27 mm; Supplier 1: Digi-Key; Supplier Part Number 1: 296-15768-5-ND; Supplier 2: Mouser; Supplier Part Number 2: 595-THS3110ID; Eco-Plan: Green (RoHS & no Sb/Br); Number of Channels: 1; Vs(Min)(V): 10; Mounting Technology: Surface Mount; Code_JEDEC: MS-012; ComponentLink1Description: Manufacturer URL; ComponentLink1URL: http://www.ti.com/; ComponentLink2Description: Datasheet; ComponentLink2URL: http://www.ti.com/general/docs/lit/getliterature.tsp?genericPartNumber=THS3110&fileType=pdf; ComponentLink3Description: Package Specification; ComponentLink3URL: http://www.ti.com/litv/pdf/msoi002j
footprint TI-D8_N (SOIC, 8-Leads, Body 4.9x3.9mm, Pitch 1.27mm, IPC Medium Density)
footprint TI-D8_L (SOIC, 8-Leads, Body 4.9x3.9mm, Pitch 1.27mm, IPC High Density)
footprint TI-D8_M (SOIC, 8-Leads, Body 4.9x3.9mm, Pitch 1.27mm, IPC Low Density)
pins: 1 REF (in), 2 VIN- (in), 3 VIN+ (in), 4 VS- (power), 5 NC, 6 VOUT (out), 7 VS+ (power), 8 PD (in)

## THS3110IDG4
designator U?
Single, Low Noise, High Voltage Current-Feedback Amplifier with Power-Down, 10 to 30 V, -40 to 85 degC, 8-pin SOIC (D8), Green (RoHS & no Sb/Br); Manufacturer: Texas Instruments; PartNumber: THS3110IDG4; 2nd Harmonic(dBc): 52; 3rd Harmonic(dBc): 48; @ MHz: 10; Acl, min stable gain(V/V): 1; BW @ Acl(MHz): 100; Diff Gain(%): 0.011; Diff Phase(deg): 0.029; Iib(Max)(nA): 6000; Io(Typ)(mA): 260; Iq per channel(Max)(mA): 7.5; Settling Time (0.1%)(Typ)(ns): 250; Slew Rate(Typ)(V/us): 1300; Sub Family: High Output Current Amplifier (>=50mA), High Speed Amplifier (>=50MHz), High Supply Voltage Amplifier (>=30V); THD (Fc is 1 MHz)(Typ)(dB): -78; Vio(Max)(mV): 8; Vn at Flatband(Typ)(nV/rtHz): 3; Vs(Max)(V): 30; DatasheetVersion: SLOS422E; PackageVersion: 4040047-3/M, 06/2011; PackageReference: D8; PackageDescription: 8-Pin Plastic Small Outline, Body 4.9 x 3.9 mm, Pitch 1.27 mm; Supplier 1: Digi-Key; Supplier Part Number 1: THS3110IDG4-ND; Supplier 2: Mouser; Supplier Part Number 2: 595-THS3110IDG4; Eco-Plan: Green (RoHS & no Sb/Br); Number of Channels: 1; Vs(Min)(V): 10; Mounting Technology: Surface Mount; Code_JEDEC: MS-012; ComponentLink1Description: Manufacturer URL; ComponentLink1URL: http://www.ti.com/; ComponentLink2Description: Datasheet; ComponentLink2URL: http://www.ti.com/general/docs/lit/getliterature.tsp?genericPartNumber=THS3110&fileType=pdf; ComponentLink3Description: Package Specification; ComponentLink3URL: http://www.ti.com/litv/pdf/msoi002j
footprint TI-D8_N (SOIC, 8-Leads, Body 4.9x3.9mm, Pitch 1.27mm, IPC Medium Density)
footprint TI-D8_L (SOIC, 8-Leads, Body 4.9x3.9mm, Pitch 1.27mm, IPC High Density)
footprint TI-D8_M (SOIC, 8-Leads, Body 4.9x3.9mm, Pitch 1.27mm, IPC Low Density)
pins: 1 REF (in), 2 VIN- (in), 3 VIN+ (in), 4 VS- (power), 5 NC, 6 VOUT (out), 7 VS+ (power), 8 PD (in)

## THS3110IDGN
designator U?
Single, Low Noise, High Voltage Current-Feedback Amplifier with Power-Down, 10 to 30 V, -40 to 85 degC, 8-pin SOP (DGN8), Green (RoHS & no Sb/Br); Manufacturer: Texas Instruments; PartNumber: THS3110IDGN; 2nd Harmonic(dBc): 52; 3rd Harmonic(dBc): 48; @ MHz: 10; Acl, min stable gain(V/V): 1; BW @ Acl(MHz): 100; Diff Gain(%): 0.011; Diff Phase(deg): 0.029; Iib(Max)(nA): 6000; Io(Typ)(mA): 260; Iq per channel(Max)(mA): 7.5; Settling Time (0.1%)(Typ)(ns): 250; Slew Rate(Typ)(V/us): 1300; Sub Family: High Output Current Amplifier (>=50mA), High Speed Amplifier (>=50MHz), High Supply Voltage Amplifier (>=30V); THD (Fc is 1 MHz)(Typ)(dB): -78; Vio(Max)(mV): 8; Vn at Flatband(Typ)(nV/rtHz): 3; Vs(Max)(V): 30; DatasheetVersion: SLOS422E; PackageVersion: 4073271/F, 05/2011; PackageReference: DGN8-1760X1425TP; PackageDescription: 8-pin Plastic Small Outline, Body 3 x 3 mm, Pitch 0.65 mm; Supplier 1: Digi-Key; Supplier Part Number 1: 296-15769-5-ND; Supplier 2: Newark; Supplier Part Number 2: 87H2771; Supplier 3: Mouser; Supplier Part Number 3: 595-THS3110IDGN; Eco-Plan: Green (RoHS & no Sb/Br); Number of Channels: 1; Vs(Min)(V): 10; Mounting Technology: Surface Mount; Code_JEDEC: MO-187; ComponentLink1Description: Manufacturer URL; ComponentLink1URL: http://www.ti.com/; ComponentLink2Description: Datasheet; ComponentLink2URL: http://www.ti.com/general/docs/lit/getliterature.tsp?genericPartNumber=THS3110&fileType=pdf; ComponentLink3Description: Package Specification; ComponentLink3URL: http://www.ti.com/litv/pdf/mpds046e
footprint TI-DGN8-1760X1425TP_N (SOP, 8-Leads, Body 3x3mm, Pitch 0.65mm, Thermal Pad 1.76x1.425mm, IPC Medium Density)
footprint TI-DGN8-1760X1425TP_L (SOP, 8-Leads, Body 3x3mm, Pitch 0.65mm, Thermal Pad 1.76x1.425mm, IPC High Density)
footprint TI-DGN8-1760X1425TP_M (SOP, 8-Leads, Body 3x3mm, Pitch 0.65mm, Thermal Pad 1.76 x 1.425 mm, IPC Low Density)
pins: 1 REF (in), 2 VIN- (in), 3 VIN+ (in), 4 VS- (power), 5 NC, 6 VOUT (out), 7 VS+ (power), 8 PD (in), 9 EP

## THS3110IDGNG4
designator U?
Single, Low Noise, High Voltage Current-Feedback Amplifier with Power-Down, 10 to 30 V, -40 to 85 degC, 8-pin SOP (DGN8), Green (RoHS & no Sb/Br); Manufacturer: Texas Instruments; PartNumber: THS3110IDGNG4; 2nd Harmonic(dBc): 52; 3rd Harmonic(dBc): 48; @ MHz: 10; Acl, min stable gain(V/V): 1; BW @ Acl(MHz): 100; Diff Gain(%): 0.011; Diff Phase(deg): 0.029; Iib(Max)(nA): 6000; Io(Typ)(mA): 260; Iq per channel(Max)(mA): 7.5; Settling Time (0.1%)(Typ)(ns): 250; Slew Rate(Typ)(V/us): 1300; Sub Family: High Output Current Amplifier (>=50mA), High Speed Amplifier (>=50MHz), High Supply Voltage Amplifier (>=30V); THD (Fc is 1 MHz)(Typ)(dB): -78; Vio(Max)(mV): 8; Vn at Flatband(Typ)(nV/rtHz): 3; Vs(Max)(V): 30; DatasheetVersion: SLOS422E; PackageVersion: 4073271/F, 05/2011; PackageReference: DGN8-1760X1425TP; PackageDescription: 8-pin Plastic Small Outline, Body 3 x 3 mm, Pitch 0.65 mm; Supplier 1: Digi-Key; Supplier Part Number 1: THS3110IDGNG4-ND; Supplier 2: Mouser; Supplier Part Number 2: 595-THS3110IDGNG4; Eco-Plan: Green (RoHS & no Sb/Br); Number of Channels: 1; Vs(Min)(V): 10; Mounting Technology: Surface Mount; Code_JEDEC: MO-187; ComponentLink1Description: Manufacturer URL; ComponentLink1URL: http://www.ti.com/; ComponentLink2Description: Datasheet; ComponentLink2URL: http://www.ti.com/general/docs/lit/getliterature.tsp?genericPartNumber=THS3110&fileType=pdf; ComponentLink3Description: Package Specification; ComponentLink3URL: http://www.ti.com/litv/pdf/mpds046e
footprint TI-DGN8-1760X1425TP_N (SOP, 8-Leads, Body 3x3mm, Pitch 0.65mm, Thermal Pad 1.76x1.425mm, IPC Medium Density)
footprint TI-DGN8-1760X1425TP_L (SOP, 8-Leads, Body 3x3mm, Pitch 0.65mm, Thermal Pad 1.76x1.425mm, IPC High Density)
footprint TI-DGN8-1760X1425TP_M (SOP, 8-Leads, Body 3x3mm, Pitch 0.65mm, Thermal Pad 1.76 x 1.425 mm, IPC Low Density)
pins: 1 REF (in), 2 VIN- (in), 3 VIN+ (in), 4 VS- (power), 5 NC, 6 VOUT (out), 7 VS+ (power), 8 PD (in), 9 EP

## THS3110IDGNR
designator U?
Single, Low Noise, High Voltage Current-Feedback Amplifier with Power-Down, 10 to 30 V, -40 to 85 degC, 8-pin SOP (DGN8), Green (RoHS & no Sb/Br); Manufacturer: Texas Instruments; PartNumber: THS3110IDGNR; 2nd Harmonic(dBc): 52; 3rd Harmonic(dBc): 48; @ MHz: 10; Acl, min stable gain(V/V): 1; BW @ Acl(MHz): 100; Diff Gain(%): 0.011; Diff Phase(deg): 0.029; Iib(Max)(nA): 6000; Io(Typ)(mA): 260; Iq per channel(Max)(mA): 7.5; Settling Time (0.1%)(Typ)(ns): 250; Slew Rate(Typ)(V/us): 1300; Sub Family: High Output Current Amplifier (>=50mA), High Speed Amplifier (>=50MHz), High Supply Voltage Amplifier (>=30V); THD (Fc is 1 MHz)(Typ)(dB): -78; Vio(Max)(mV): 8; Vn at Flatband(Typ)(nV/rtHz): 3; Vs(Max)(V): 30; DatasheetVersion: SLOS422E; PackageVersion: 4073271/F, 05/2011; PackageReference: DGN8-1760X1425TP; PackageDescription: 8-pin Plastic Small Outline, Body 3 x 3 mm, Pitch 0.65 mm; Supplier 1: Digi-Key; Supplier Part Number 1: THS3110IDGNR-ND; Supplier 2: Mouser; Supplier Part Number 2: 595-THS3110IDGNR; Eco-Plan: Green (RoHS & no Sb/Br); Number of Channels: 1; Vs(Min)(V): 10; Mounting Technology: Surface Mount; Code_JEDEC: MO-187; ComponentLink1Description: Manufacturer URL; ComponentLink1URL: http://www.ti.com/; ComponentLink2Description: Datasheet; ComponentLink2URL: http://www.ti.com/general/docs/lit/getliterature.tsp?genericPartNumber=THS3110&fileType=pdf; ComponentLink3Description: Package Specification; ComponentLink3URL: http://www.ti.com/litv/pdf/mpds046e
footprint TI-DGN8-1760X1425TP_N (SOP, 8-Leads, Body 3x3mm, Pitch 0.65mm, Thermal Pad 1.76x1.425mm, IPC Medium Density)
footprint TI-DGN8-1760X1425TP_L (SOP, 8-Leads, Body 3x3mm, Pitch 0.65mm, Thermal Pad 1.76x1.425mm, IPC High Density)
footprint TI-DGN8-1760X1425TP_M (SOP, 8-Leads, Body 3x3mm, Pitch 0.65mm, Thermal Pad 1.76 x 1.425 mm, IPC Low Density)
pins: 1 REF (in), 2 VIN- (in), 3 VIN+ (in), 4 VS- (power), 5 NC, 6 VOUT (out), 7 VS+ (power), 8 PD (in), 9 EP

## THS3110IDGNRG4
designator U?
Single, Low Noise, High Voltage Current-Feedback Amplifier with Power-Down, 10 to 30 V, -40 to 85 degC, 8-pin SOP (DGN8), Green (RoHS & no Sb/Br); Manufacturer: Texas Instruments; PartNumber: THS3110IDGNRG4; 2nd Harmonic(dBc): 52; 3rd Harmonic(dBc): 48; @ MHz: 10; Acl, min stable gain(V/V): 1; BW @ Acl(MHz): 100; Diff Gain(%): 0.011; Diff Phase(deg): 0.029; Iib(Max)(nA): 6000; Io(Typ)(mA): 260; Iq per channel(Max)(mA): 7.5; Settling Time (0.1%)(Typ)(ns): 250; Slew Rate(Typ)(V/us): 1300; Sub Family: High Output Current Amplifier (>=50mA), High Speed Amplifier (>=50MHz), High Supply Voltage Amplifier (>=30V); THD (Fc is 1 MHz)(Typ)(dB): -78; Vio(Max)(mV): 8; Vn at Flatband(Typ)(nV/rtHz): 3; Vs(Max)(V): 30; DatasheetVersion: SLOS422E; PackageVersion: 4073271/F, 05/2011; PackageReference: DGN8-1760X1425TP; PackageDescription: 8-pin Plastic Small Outline, Body 3 x 3 mm, Pitch 0.65 mm; Supplier 1: Digi-Key; Supplier Part Number 1: THS3110IDGNRG4-ND; Supplier 2: Mouser; Supplier Part Number 2: 595-THS3110IDGNRG4; Eco-Plan: Green (RoHS & no Sb/Br); Number of Channels: 1; Vs(Min)(V): 10; Mounting Technology: Surface Mount; Code_JEDEC: MO-187; ComponentLink1Description: Manufacturer URL; ComponentLink1URL: http://www.ti.com/; ComponentLink2Description: Datasheet; ComponentLink2URL: http://www.ti.com/general/docs/lit/getliterature.tsp?genericPartNumber=THS3110&fileType=pdf; ComponentLink3Description: Package Specification; ComponentLink3URL: http://www.ti.com/litv/pdf/mpds046e
footprint TI-DGN8-1760X1425TP_N (SOP, 8-Leads, Body 3x3mm, Pitch 0.65mm, Thermal Pad 1.76x1.425mm, IPC Medium Density)
footprint TI-DGN8-1760X1425TP_L (SOP, 8-Leads, Body 3x3mm, Pitch 0.65mm, Thermal Pad 1.76x1.425mm, IPC High Density)
footprint TI-DGN8-1760X1425TP_M (SOP, 8-Leads, Body 3x3mm, Pitch 0.65mm, Thermal Pad 1.76 x 1.425 mm, IPC Low Density)
pins: 1 REF (in), 2 VIN- (in), 3 VIN+ (in), 4 VS- (power), 5 NC, 6 VOUT (out), 7 VS+ (power), 8 PD (in), 9 EP

## THS3110IDR
designator U?
Single, Low Noise, High Voltage Current-Feedback Amplifier with Power-Down, 10 to 30 V, -40 to 85 degC, 8-pin SOIC (D8), Green (RoHS & no Sb/Br); Manufacturer: Texas Instruments; PartNumber: THS3110IDR; 2nd Harmonic(dBc): 52; 3rd Harmonic(dBc): 48; @ MHz: 10; Acl, min stable gain(V/V): 1; BW @ Acl(MHz): 100; Diff Gain(%): 0.011; Diff Phase(deg): 0.029; Iib(Max)(nA): 6000; Io(Typ)(mA): 260; Iq per channel(Max)(mA): 7.5; Settling Time (0.1%)(Typ)(ns): 250; Slew Rate(Typ)(V/us): 1300; Sub Family: High Output Current Amplifier (>=50mA), High Speed Amplifier (>=50MHz), High Supply Voltage Amplifier (>=30V); THD (Fc is 1 MHz)(Typ)(dB): -78; Vio(Max)(mV): 8; Vn at Flatband(Typ)(nV/rtHz): 3; Vs(Max)(V): 30; DatasheetVersion: SLOS422E; PackageVersion: 4040047-3/M, 06/2011; PackageReference: D8; PackageDescription: 8-Pin Plastic Small Outline, Body 4.9 x 3.9 mm, Pitch 1.27 mm; Supplier 1: Digi-Key; Supplier Part Number 1: THS3110IDR-ND; Supplier 2: Mouser; Supplier Part Number 2: 595-THS3110IDR; Eco-Plan: Green (RoHS & no Sb/Br); Number of Channels: 1; Vs(Min)(V): 10; Mounting Technology: Surface Mount; Code_JEDEC: MS-012; ComponentLink1Description: Manufacturer URL; ComponentLink1URL: http://www.ti.com/; ComponentLink2Description: Datasheet; ComponentLink2URL: http://www.ti.com/general/docs/lit/getliterature.tsp?genericPartNumber=THS3110&fileType=pdf; ComponentLink3Description: Package Specification; ComponentLink3URL: http://www.ti.com/litv/pdf/msoi002j
footprint TI-D8_N (SOIC, 8-Leads, Body 4.9x3.9mm, Pitch 1.27mm, IPC Medium Density)
footprint TI-D8_L (SOIC, 8-Leads, Body 4.9x3.9mm, Pitch 1.27mm, IPC High Density)
footprint TI-D8_M (SOIC, 8-Leads, Body 4.9x3.9mm, Pitch 1.27mm, IPC Low Density)
pins: 1 REF (in), 2 VIN- (in), 3 VIN+ (in), 4 VS- (power), 5 NC, 6 VOUT (out), 7 VS+ (power), 8 PD (in)

## THS3110IDRG4
designator U?
Single, Low Noise, High Voltage Current-Feedback Amplifier with Power-Down, 10 to 30 V, -40 to 85 degC, 8-pin SOIC (D8), Green (RoHS & no Sb/Br); Manufacturer: Texas Instruments; PartNumber: THS3110IDRG4; 2nd Harmonic(dBc): 52; 3rd Harmonic(dBc): 48; @ MHz: 10; Acl, min stable gain(V/V): 1; BW @ Acl(MHz): 100; Diff Gain(%): 0.011; Diff Phase(deg): 0.029; Iib(Max)(nA): 20000; Io(Typ)(mA): 260; Iq per channel(Max)(mA): 7.5; Settling Time (0.1%)(Typ)(ns): 27; Slew Rate(Typ)(V/us): 1300; Sub Family: High Output Current Amplifier (>=50mA), High Speed Amplifier (>=50MHz), High Supply Voltage Amplifier (>=30V); THD (Fc is 1 MHz)(Typ)(dB): -78; Vio(Max)(mV): 12; Vn at Flatband(Typ)(nV/rtHz): 3; Vs(Max)(V): 30; DatasheetVersion: SLOS422E; PackageVersion: 4040047-3/M, 06/2011; PackageReference: D8; PackageDescription: 8-Pin Plastic Small Outline, Body 4.9 x 3.9 mm, Pitch 1.27 mm; Supplier 1: Digi-Key; Supplier Part Number 1: THS3110IDRG4-ND; Supplier 2: Mouser; Supplier Part Number 2: 595-THS3110IDRG4; Eco-Plan: Green (RoHS & no Sb/Br); Number of Channels: 1; Vs(Min)(V): 10; Mounting Technology: Surface Mount; Code_JEDEC: MS-012; ComponentLink1Description: Manufacturer URL; ComponentLink1URL: http://www.ti.com/; ComponentLink2Description: Datasheet; ComponentLink2URL: http://www.ti.com/general/docs/lit/getliterature.tsp?genericPartNumber=THS3110&fileType=pdf; ComponentLink3Description: Package Specification; ComponentLink3URL: http://www.ti.com/litv/pdf/msoi002j
footprint TI-D8_N (SOIC, 8-Leads, Body 4.9x3.9mm, Pitch 1.27mm, IPC Medium Density)
footprint TI-D8_L (SOIC, 8-Leads, Body 4.9x3.9mm, Pitch 1.27mm, IPC High Density)
footprint TI-D8_M (SOIC, 8-Leads, Body 4.9x3.9mm, Pitch 1.27mm, IPC Low Density)
pins: 1 REF (in), 2 VIN- (in), 3 VIN+ (in), 4 VS- (power), 5 NC, 6 VOUT (out), 7 VS+ (power), 8 PD (in)

## THS3111CD
designator U?
Single, Low Noise, High Voltage Current-Feedback Amplifier, 10 to 30 V, 0 to 70 degC, 8-pin SOIC (D8), Green (RoHS & no Sb/Br); Manufacturer: Texas Instruments; PartNumber: THS3111CD; 2nd Harmonic(dBc): 52; 3rd Harmonic(dBc): 48; @ MHz: 10; Acl, min stable gain(V/V): 1; BW @ Acl(MHz): 100; Diff Gain(%): 0.011; Diff Phase(deg): 0.029; Iib(Max)(nA): 6000; Io(Typ)(mA): 260; Iq per channel(Max)(mA): 7.5; Settling Time (0.1%)(Typ)(ns): 250; Slew Rate(Typ)(V/us): 1300; Sub Family: High Output Current Amplifier (>=50mA), High Speed Amplifier (>=50MHz), High Supply Voltage Amplifier (>=30V); THD (Fc is 1 MHz)(Typ)(dB): -78; Vio(Max)(mV): 8; Vn at Flatband(Typ)(nV/rtHz): 3; Vs(Max)(V): 30; DatasheetVersion: SLOS422E; PackageVersion: 4040047-3/M, 06/2011; PackageReference: D8; PackageDescription: 8-Pin Plastic Small Outline, Body 4.9 x 3.9 mm, Pitch 1.27 mm; Supplier 1: Digi-Key; Supplier Part Number 1: THS3111CD-ND; Supplier 2: Mouser; Supplier Part Number 2: 595-THS3111CD; Eco-Plan: Green (RoHS & no Sb/Br); Number of Channels: 1; Vs(Min)(V): 10; Mounting Technology: Surface Mount; Code_JEDEC: MS-012; ComponentLink1Description: Manufacturer URL; ComponentLink1URL: http://www.ti.com/; ComponentLink2Description: Datasheet; ComponentLink2URL: http://www.ti.com/general/docs/lit/getliterature.tsp?genericPartNumber=THS3111&fileType=pdf; ComponentLink3Description: Package Specification; ComponentLink3URL: http://www.ti.com/litv/pdf/msoi002j
footprint TI-D8_N (SOIC, 8-Leads, Body 4.9x3.9mm, Pitch 1.27mm, IPC Medium Density)
footprint TI-D8_L (SOIC, 8-Leads, Body 4.9x3.9mm, Pitch 1.27mm, IPC High Density)
footprint TI-D8_M (SOIC, 8-Leads, Body 4.9x3.9mm, Pitch 1.27mm, IPC Low Density)
part A pins: 2 VIN- (in), 3 VIN+ (in), 4 VS- (power), 6 VOUT (out), 7 VS+ (power)
part B pins: 1 NC, 5 NC, 8 NC

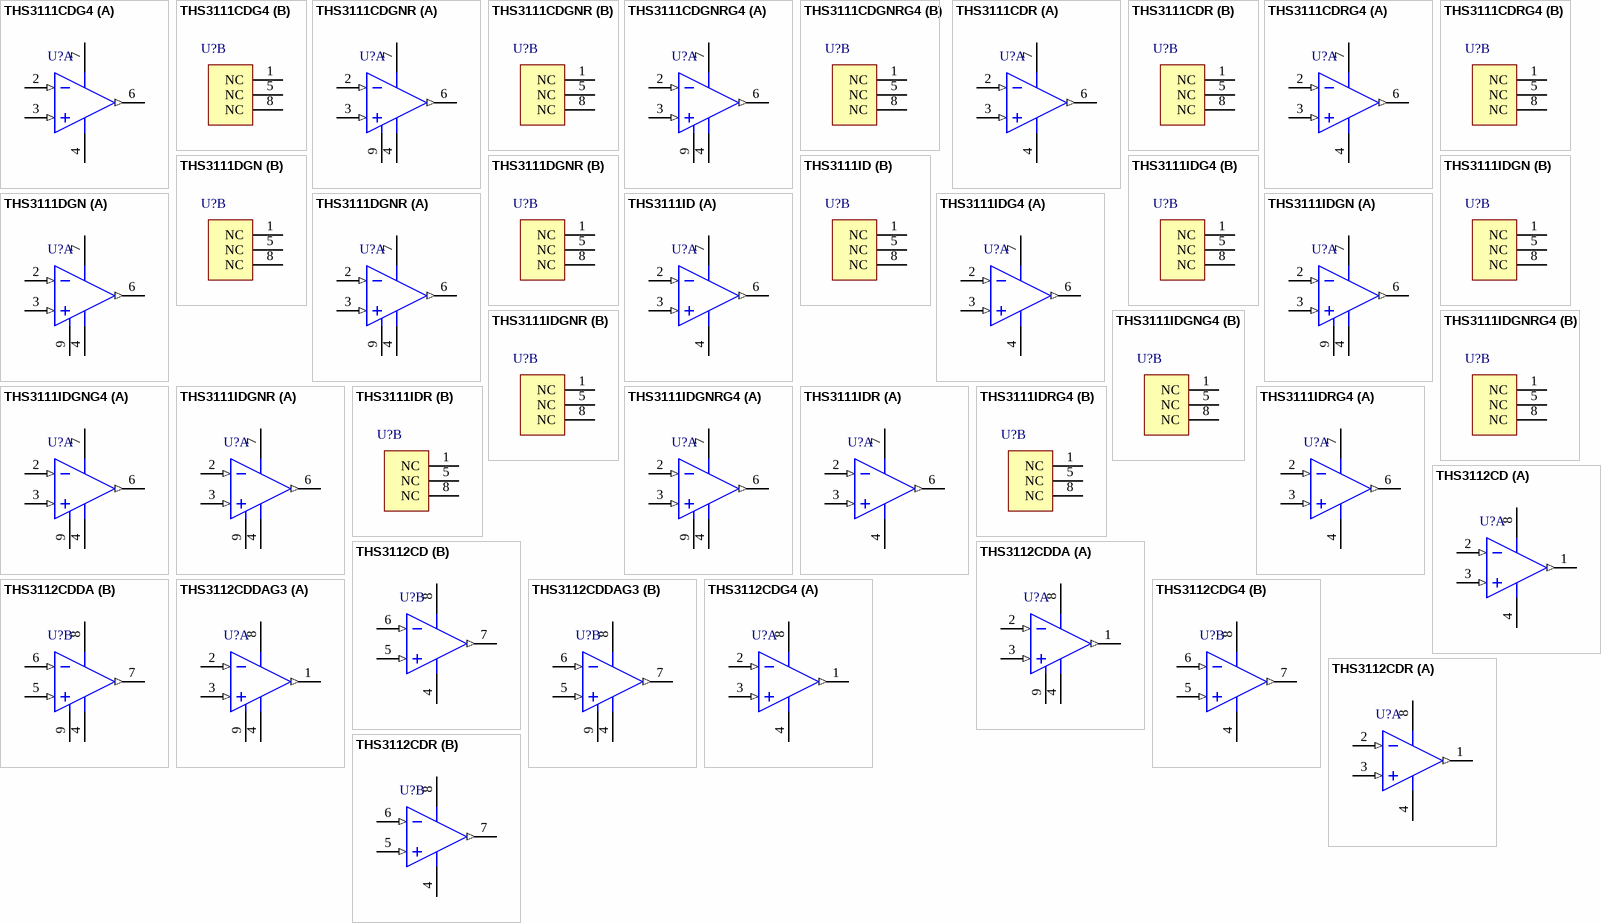
[diagram p26: symbols THS3111CDG4 to THS3112CDR]